# EAGLE library part USB_MICRO (library PaxInstruments-Connectors)
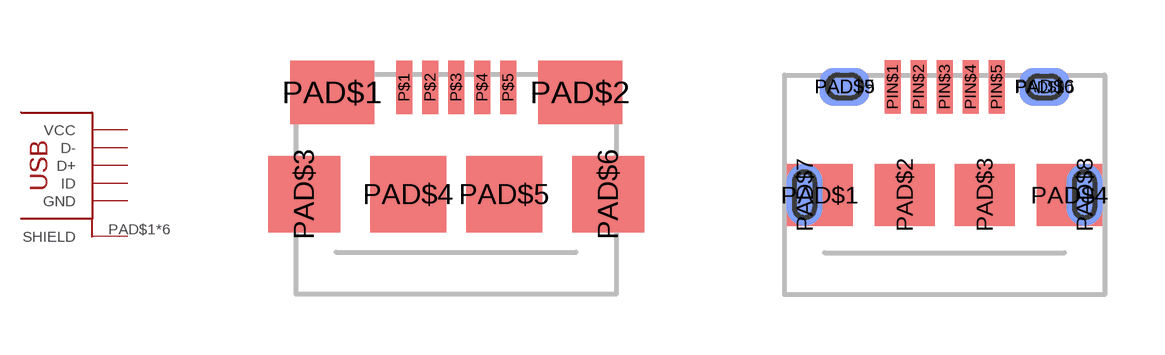
[diagram p2: symbol with the pads of USB_MICRO_SMD; footprints USB_MICRO_SMD, USB_MICRO_THRUHOLE]

Designator prefix -

## USB_MICROSMT (MF: FCI)  [USB_MICRO_SMD]
P$1  VCC
P$2  D-
P$3  D+
P$4  ID
P$5  GND
PAD$1  SHIELD
PAD$2  SHIELD
PAD$3  SHIELD
PAD$4  SHIELD
PAD$5  SHIELD
PAD$6  SHIELD

## USB_MICROSMT+THRUHULE (MF: FCI; MPN: 10118194-0001LF)  [USB_MICRO_THRUHOLE]
PAD$1  SHIELD
PAD$2  SHIELD
PAD$3  SHIELD
PAD$4  SHIELD
PAD$5  SHIELD
PAD$6  SHIELD
PAD$7  SHIELD
PAD$8  SHIELD
PAD$9  SHIELD
PAD$10  SHIELD
PIN$1  VCC
PIN$2  D-
PIN$3  D+
PIN$4  ID
PIN$5  GND

## Footprint USB_MICRO_SMD (pad centres in mm)
smd 0.4 x 1.35: P$1 -1.3,2.675; P$2 -0.65,2.675; P$3 0,2.675; P$4 0.65,2.675; P$5 1.3,2.675
smd 2.1 x 1.6: PAD$1 -3.1,2.55; PAD$2 3.1,2.55
smd 1.8 x 1.9: PAD$3 -3.8,0; PAD$6 3.8,0
smd 1.9 x 1.9: PAD$4 -1.2,0; PAD$5 1.2,0

## Footprint USB_MICRO_THRUHOLE (pad centres in mm)
smd 1.645 x 1.55: PAD$1 -3.123,0; PAD$4 3.123,0
smd 1.5 x 1.55: PAD$2 -1,0; PAD$3 1,0
smd 1.25 x 0.95: PAD$5 -2.5,2.7; PAD$6 2.5,2.7
smd 0.9 x 1.55 bottom: PAD$7 -3.5,0; PAD$8 3.5,0
smd 1.25 x 0.95 bottom: PAD$9 -2.5,2.7; PAD$10 2.5,2.7
smd 0.4 x 1.35: PIN$1 -1.3,2.7; PIN$2 -0.65,2.7; PIN$3 0,2.7; PIN$4 0.65,2.7; PIN$5 1.3,2.7